# Altium footprint library Adafruit PyGamer.PCBLIB: 205 footprints (part 10 of 13)
Each footprint in its own frame and in the unit in brackets; x right, y up, seen from the top. Pads: shape width x height; smd on the part's side, far side on the other; paste and mask are expansions set on the pad; w line width, h text height; cw(c..) or ccw(c..) is an arc to the next point about the centre after c.
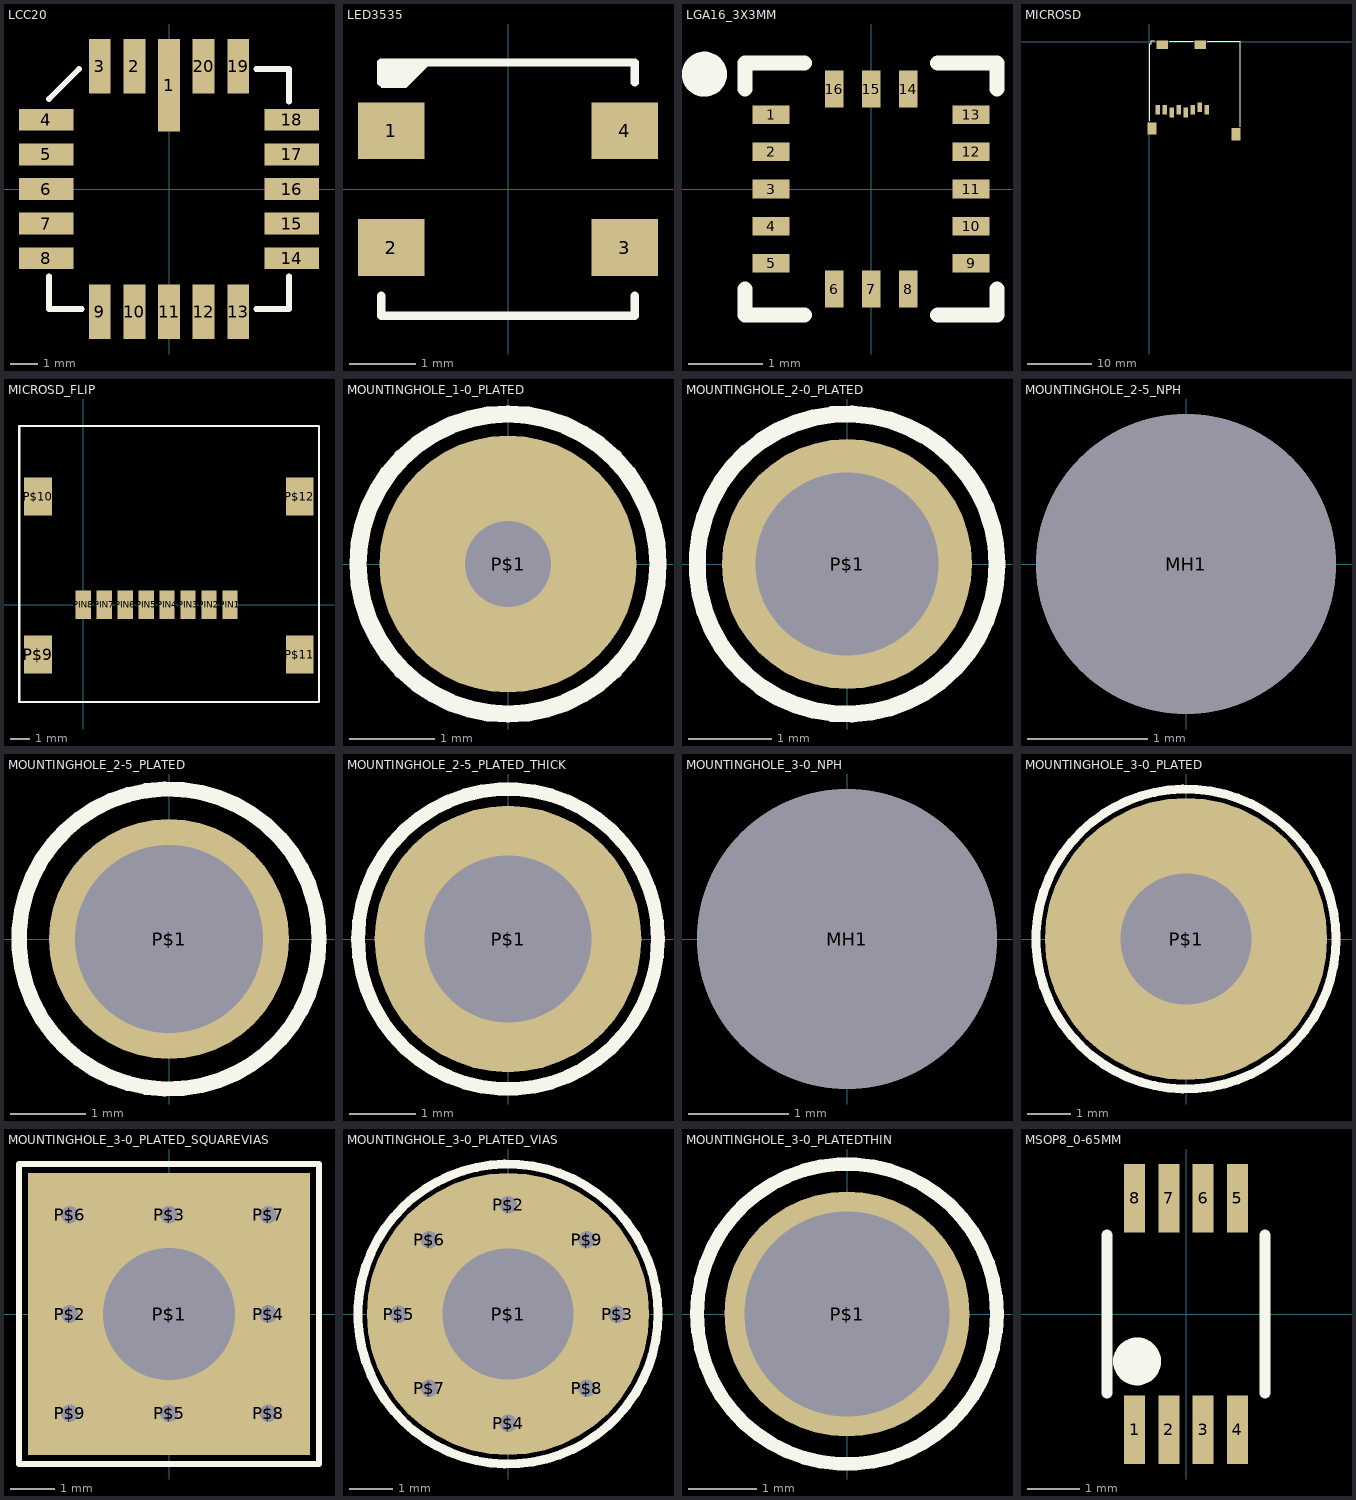
[diagram p9: the footprints below, top view; thin cyan lines are the x and y axes]

## LCC20 [mil]
pads (20):
  rect 31.5x133.86 smd: 1(0,149.61)
  rect 31.5x78.74 smd: 2(-50,177.17) 3(-100,177.17) 9(-100,-177.17) 10(-50,-177.17) 11(0,-177.17) 12(50,-177.17) 13(100,-177.17) 19(100,177.17) 20(50,177.17)
  rect 78.74x31.5 smd: 4(-177.17,100) 5(-177.17,50) 6(-177.17,0) 7(-177.17,-50) 8(-177.17,-100) 14(177.17,-100) 15(177.17,-50) 16(177.17,0) 17(177.17,50) 18(177.17,100)
Top Overlay:
  lines w8: -173.23,-125.75 -173.23,-173.23 -125.75,-173.23 ; -173.23,129.92 -129.92,173.23 ; 125.75,-173.23 173.23,-173.23 173.23,-125.75 ; 125.75,173.23 173.23,173.23 173.23,125.75
Bottom Overlay:
  lines w8: -173.23,-173.62 -173.23,-173.23 ; -173.23,-115.75 -173.23,-173.23 ; -173.23,-84.25 -173.23,-65.75 ; -173.23,-34.25 -173.23,-15.75 ; -173.23,15.75 -173.23,34.25 ; -173.23,65.75 -173.23,84.25 ; -173.23,115.75 -173.23,129.92 -129.92,173.23 -115.75,173.23 ; -173.17,-115.75 ccw(c-173.17,-100) -173.17,-84.25 ; -173.17,-65.75 ccw(c-173.17,-50) -173.17,-34.25 ; -173.17,-15.75 ccw(c-173.17,0) -173.17,15.75 ; -173.17,34.25 ccw(c-173.17,50) -173.17,65.75 ; -173.17,84.25 ccw(c-173.17,100) -173.17,115.75 ; -115.75,-173.23 -173.23,-173.23 ; -115.75,-173.17 cw(c-100,-173.17) -84.25,-173.17 ; -115.75,173.17 ccw(c-100,173.17) -84.25,173.17 ; -84.25,-173.23 -65.75,-173.23 ; -84.25,173.23 -65.75,173.23 ; -65.75,-173.17 cw(c-50,-173.17) -34.25,-173.17 ; -65.75,173.17 ccw(c-50,173.17) -34.25,173.17 ; -34.25,-173.23 -15.75,-173.23 ; -34.25,173.23 -15.75,173.23 ; -15.75,-173.17 cw(c0,-173.17) 15.75,-173.17 ; -15.75,173.17 ccw(c0,173.17) 15.75,173.17 ; 15.75,-173.23 34.25,-173.23 ; 15.75,173.23 34.25,173.23 ; 34.25,-173.17 cw(c50,-173.17) 65.75,-173.17 ; 34.25,173.17 ccw(c50,173.17) 65.75,173.17 ; 65.75,-173.23 84.25,-173.23 ; 65.75,173.23 84.25,173.23 ; 84.25,-173.17 cw(c100,-173.17) 115.75,-173.17 ; 84.25,173.17 ccw(c100,173.17) 115.75,173.17 ; 115.75,-173.23 173.23,-173.23 173.23,-115.75 ; 115.75,173.23 173.23,173.23 173.23,115.75 ; 173.17,-115.75 cw(c173.17,-100) 173.17,-84.25 ; 173.17,-65.75 cw(c173.17,-50) 173.17,-34.25 ; 173.17,-15.75 cw(c173.17,0) 173.17,15.75 ; 173.17,34.25 cw(c173.17,50) 173.17,65.75 ; 173.17,84.25 cw(c173.17,100) 173.17,115.75 ; 173.23,-84.25 173.23,-65.75 ; 173.23,-34.25 173.23,-15.75 ; 173.23,15.75 173.23,34.25 ; 173.23,65.75 173.23,84.25

## LED3535 [mm]
pads (4):
  rect 1x0.85 smd: 1(-1.75,0.875) 2(-1.75,-0.875) 3(1.75,-0.875) 4(1.75,0.875)
Top Overlay:
  region: -1.905,1.905 -1.905,1.524 -1.524,1.524 -1.143,1.905
  lines w0.127: -1.9,-1.6 -1.9,-1.9 1.9,-1.9 1.9,-1.6 ; -1.9,1.6 -1.9,1.9 1.9,1.9 1.9,1.6
Bottom Overlay:
  circle w0.127: c0,0 r1.4
  lines w0.127: -1.75,-1.75 1.75,-1.75 1.75,1.75 -1.75,1.75 -1.75,-1.75

## LGA16_3X3MM [mm]
pads (16):
  rect 0.5x0.25 smd: 1(-1.35,1) 2(-1.35,0.5) 3(-1.35,0) 4(-1.35,-0.5) 5(-1.35,-1) 9(1.35,-1) 10(1.35,-0.5) 11(1.35,0) 12(1.35,0.5) 13(1.35,1)
  rect 0.25x0.5 smd: 6(-0.5,-1.35) 7(0,-1.35) 8(0.5,-1.35) 14(0.5,1.35) 15(0,1.35) 16(-0.5,1.35)
Top Overlay:
  circle w0.406: c-2.25,1.55 r0.1
  lines w0.203: -1.7,-1.35 -1.7,-1.7 -0.9,-1.7 ; -1.7,1.35 -1.7,1.7 -0.9,1.7 ; 0.9,-1.7 1.7,-1.7 1.7,-1.35 ; 0.9,1.7 1.7,1.7 1.7,1.35
Bottom Overlay:
  lines w0.051: -1.5,-1.5 1.5,-1.5 1.5,1.5 -1.5,1.5 -1.5,-1.5

## MICROSD [mm]
pads (12):
  rect 0.7x1.5 smd: 1(9,-10.64) 2(7.9,-10.24) 3(6.8,-10.64) 4(5.7,-11.04) 5(4.6,-10.64) 6(3.5,-11.04) 7(2.4,-10.64) 8(1.3,-10.64)
  rect 1.8x1.4 smd: CD1(2,-0.44) CD2(8,-0.44)
  rect 1.4x1.9 smd: MT1(0.4,-13.54) MT2(13.6,-14.44)
Top Overlay:
  lines w0.127: -0.05,-12.35 -0.05,-0.4 0.2,-0.4 0.2,0.1 0.85,0.1 ; 3.15,0.1 6.85,0.1 ; 9.1,0.1 14.15,0.1 14.15,-13.25
Bottom Overlay:
  drawing of 241 lines, arcs and shapes, not listed

## MICROSD_FLIP [mm]
pads (12):
  rect 1.45x2 smd: P$9(-2.38,-2.6) P$10(-2.38,5.7) P$11(11.37,-2.6) P$12(11.37,5.7)
  rect 0.8x1.5 smd: PIN1(7.7,0) PIN2(6.6,0) PIN3(5.5,0) PIN4(4.4,0) PIN5(3.3,0) PIN6(2.2,0) PIN7(1.1,0) PIN8(0,0)
Top Overlay:
  lines w0.127: -3.36,-5.1 12.38,-5.1 12.38,9.4 -3.36,9.4 -3.36,-5.1

## MOUNTINGHOLE_1-0_PLATED [mm]
pads (1):
  round 3 hole 1: P$1(0,0)
Top Overlay:
  circle w0.203: c0,0 r1.75

## MOUNTINGHOLE_2-0_PLATED [mm]
pads (1):
  round 3 hole 2.2: P$1(0,0)
Top Overlay:
  circle w0.203: c0,0 r1.8

## MOUNTINGHOLE_2-5_NPH [mil]
pads (1):
  round 98.43 hole 98.43 unplated: MH1(0,0)

## MOUNTINGHOLE_2-5_PLATED [mil]
pads (1):
  round 125.98 hole 98.43: P$1(0,0)
Top Overlay:
  circle w8: c0,0 r78.74

## MOUNTINGHOLE_2-5_PLATED_THICK [mm]
pads (1):
  round 4 hole 2.5: P$1(0,0)
Top Overlay:
  circle w0.203: c0,0 r2.25

## MOUNTINGHOLE_3-0_NPH [mm]
pads (1):
  round 3 hole 3 unplated: MH1(0,0)

## MOUNTINGHOLE_3-0_PLATED [mil]
pads (1):
  round 254 hole 118.11: P$1(0,0)
Top Overlay:
  circle w8: c0,0 r135
Bottom Overlay:
  circle w18: c0,0 r30
  lines w98: -85,0 ccw(c0,0) 0,-85 ; 0,85 cw(c0,0) 85,0

## MOUNTINGHOLE_3-0_PLATED_SQUAREVIAS [mm]
pads (9):
  rect 6.4x6.4 / inner round 5.913 / far side rect 6.4x6.4 hole 3: P$1(0,0)
  round 0.908 hole 0.4: P$2(-2.25,0) P$3(0,2.25) P$4(2.25,0) P$5(0,-2.25) P$6(-2.25,2.25) P$7(2.25,2.25) P$8(2.25,-2.25) P$9(-2.25,-2.25)
Top Overlay:
  lines w0.127: -3.4,-3.4 -3.4,3.4 3.4,3.4 3.4,-3.4 -3.4,-3.4
Bottom Overlay:
  circle w0.457: c0,0 r0.762

## MOUNTINGHOLE_3-0_PLATED_VIAS [mil]
pads (9):
  round 254 hole 118.11: P$1(0,0)
  round 35.75 hole 15.75: P$2(0,98.43) P$3(98.43,0) P$4(0,-98.43) P$5(-98.43,0) P$6(-70.87,66.93) P$7(-70.87,-66.93) P$8(70.87,-66.93) P$9(70.87,66.93)
Top Overlay:
  circle w8: c0,0 r135
Bottom Overlay:
  circle w18: c0,0 r30
  lines w98: -85,0 ccw(c0,0) 0,-85 ; 0,85 cw(c0,0) 85,0

## MOUNTINGHOLE_3-0_PLATEDTHIN [mm]
pads (1):
  round 3.6 hole 3: P$1(0,0)
Top Overlay:
  circle w0.2: c0,0 r2.2

## MSOP8_0-65MM [mil]
pads (8):
  rect 15.75x51.18 smd: 1(-38.39,-86.61) 2(-12.8,-86.61) 3(12.8,-86.61) 4(38.39,-86.61) 5(38.39,86.61) 6(12.8,86.61) 7(-12.8,86.61) 8(-38.39,86.61)
Top Overlay:
  circle w24: c-36.61,-35.43 r5.91
  lines w8: -59.06,-59.06 -59.06,59.06 ; 59.06,-59.06 59.06,59.06
Bottom Overlay:
  lines w5: -59.06,-59.06 -59.06,59.06 ; 59.06,-59.06 59.06,59.06
  lines w8: -59.06,-59.06 59.06,-59.06 ; -59.06,59.06 59.06,59.06